# EAGLE library part LT1431 (library MDT_VREF)
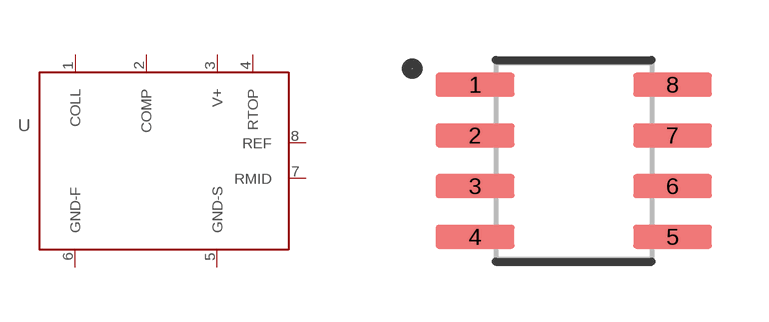
[diagram p0: symbol with the pads of SOIC8; footprint SOIC8]

Designator prefix U

## LT1431SOIC8 (DESCRIPTION: IC VREF SHUNT ADJ 0.4% 8SOIC; PACKAGE: SOIC8; PARTNO: LT1431CS8; VOLTAGE: 2.5V)  [SOIC8]
1  COLL  pas
2  COMP  pas
3  V+  pas
4  RTOP  pas
5  GND-S  pwr
6  GND-F  pwr
7  RMID  pas
8  REF  pas

## Footprint SOIC8 (pad centres in mm)
smd 1.97 x 0.6: 1 -2.47,1.905; 2 -2.47,0.635; 3 -2.47,-0.635; 4 -2.47,-1.905; 5 2.47,-1.905; 6 2.47,-0.635; 7 2.47,0.635; 8 2.47,1.905